# Altium footprint library LARS_409_SENSORS.PCBLIB: 10 footprints
Each footprint in its own frame and in the unit in brackets; x right, y up, seen from the top. Pads: shape width x height; smd on the part's side, far side on the other; paste and mask are expansions set on the pad; w line width, h text height; cw(c..) or ccw(c..) is an arc to the next point about the centre after c.
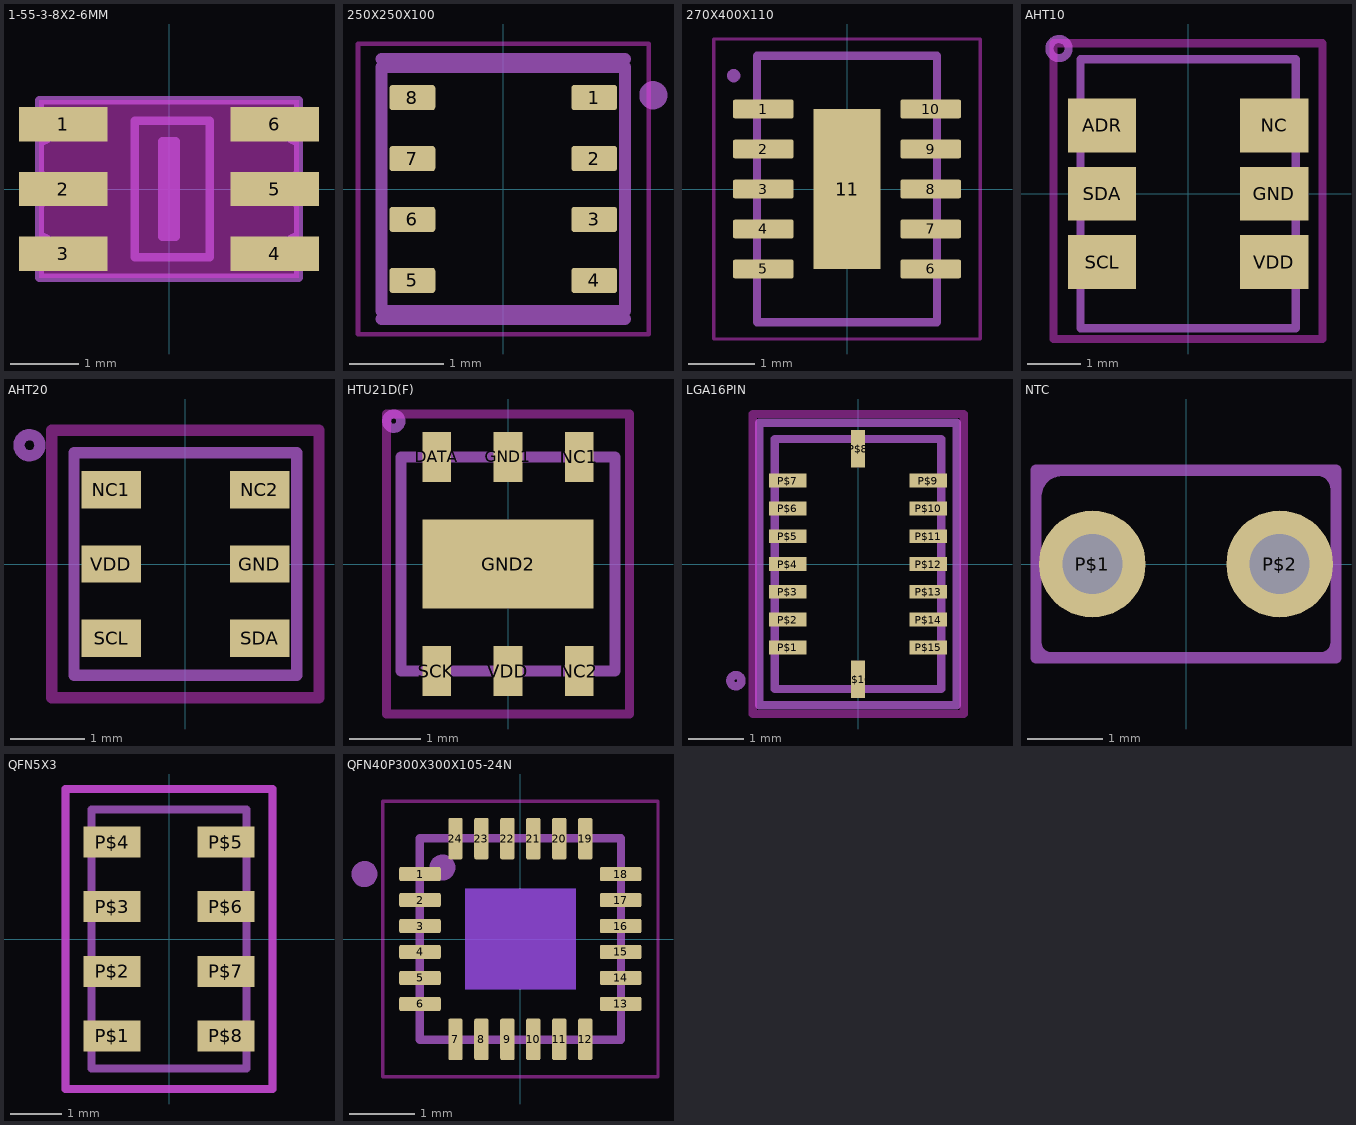
[diagram p0: the footprints below, top view; thin cyan lines are the x and y axes]

## 1-55-3-8X2-6MM [mm]
pads (6):
  rect 1.3x0.5 smd: 1(-1.55,0.95) 2(-1.55,0) 3(-1.55,-0.95) 4(1.55,-0.95) 5(1.55,0) 6(1.55,0.95)
Top keep-out:
  region: -1.902,-1.302 -1.902,1.3 1.9,1.3 1.9,-1.302
tDocu:
  lines w0.127: -1.9,-1.3 -1.9,-1.1 ; -1.9,-1.3 -1.9,-1.1 ; -1.9,-1.3 -1.9,-1.1 ; -1.9,-1.3 1.9,-1.3 1.9,-1.1 cw(c1.9,-0.9) 1.7,-0.9 cw(c1.9,-0.9) 1.9,-0.7 1.9,-0.2 cw(c1.9,0) 1.7,0 cw(c1.9,0) 1.9,0.2 1.9,0.7 cw(c1.9,0.9) 1.7,0.9 cw(c1.9,0.9) 1.9,1.1 1.9,1.3 -1.9,1.3 ; -1.9,-1.1 ccw(c-1.9,-0.9) -1.7,-0.9 ccw(c-1.9,-0.9) -1.9,-0.7 ; -1.9,-0.7 -1.9,-0.2 ; -1.9,-0.7 -1.9,-0.2 ; -1.9,-0.7 -1.9,-0.2 ; -1.9,-0.2 ccw(c-1.9,0) -1.7,0 ccw(c-1.9,0) -1.9,0.2 ; -1.9,0.2 -1.9,0.7 ; -1.9,0.2 -1.9,0.7 ; -1.9,0.2 -1.9,0.7 ; -1.9,0.7 ccw(c-1.9,0.9) -1.7,0.9 ccw(c-1.9,0.9) -1.9,1.1 ; -1.9,1.1 -1.9,1.3 ; -1.9,1.1 -1.9,1.3 ; -1.9,1.1 -1.9,1.3
tValues:
  region: -0.1,-0.701 -0.1,0.7 0.1,0.7 0.1,-0.701
  lines w0.127: -0.5,-1 -0.5,1 0.6,1 0.6,-1 -0.5,-1 ; -0.1,-0.7 -0.1,0.7 0.1,0.7 0.1,-0.7 -0.1,-0.7

## 250X250X100 [mm]
pads (8):
  rrect25% 0.49x0.27 smd: 1(0.97,0.975) 2(0.97,0.325) 3(0.97,-0.325) 4(0.97,-0.975) 5(-0.97,-0.975) 6(-0.97,-0.325) 7(-0.97,0.325) 8(-0.97,0.975)
Top keep-out:
  lines w0.05: -1.55,-1.55 1.55,-1.55 1.55,1.55 -1.55,1.55 -1.55,-1.55
tDocu:
  lines w0.127: -1.3,-1.3 -1.3,1.3 1.3,1.3 1.3,-1.3 -1.3,-1.3
tPlace:
  circle w0.2: c1.6,1 r0.05
  lines w0.127: -1.3,-1.385 1.3,-1.385 ; -1.3,1.385 1.3,1.385

## 270X400X110 [mm]
pads (11):
  rrect20% 0.91x0.28 smd: 1(-1.255,1.2) 2(-1.255,0.6) 3(-1.255,0) 4(-1.255,-0.6) 5(-1.255,-1.2) 6(1.255,-1.2) 7(1.255,-0.6) 8(1.255,0) 9(1.255,0.6) 10(1.255,1.2)
  rect 1x2.4 smd paste+0: 11(0,0)
Top keep-out:
  lines w0.05: -2,-2.25 2,-2.25 2,2.25 -2,2.25 -2,-2.25
Top Paste:
  region: -0.38,-0.761 -0.38,0.76 0.38,0.76 0.38,-0.761
tDocu:
  lines w0.127: -1.35,-2 1.35,-2 1.35,2 -1.35,2 -1.35,-2
tPlace:
  circle w0.1: c-1.7,1.7 r0.05
  lines w0.127: -1.35,-1.7 -1.35,-2 1.35,-2 1.35,-1.7 ; -1.35,1.7 -1.35,2 1.35,2 1.35,1.7

## AHT10 [mm]
pads (6):
  rect 1.27x1 smd: ADR(-1.6,1.27) GND(1.6,0) NC(1.6,1.27) SCL(-1.6,-1.27) SDA(-1.6,0) VDD(1.6,-1.27)
Top keep-out:
  lines w0.152: -2.5,-2.7 2.5,-2.7 2.5,2.8 -2.5,2.8 -2.5,-2.7
tDocu:
  lines w0.152: -2,-2.5 -2,2.5 ; 2,-2.5 2,2.5
tPlace:
  circle w0.152: c-2.4,2.7 r0.178
  lines w0.152: -2,-2.5 2,-2.5 ; -2,2.5 2,2.5

## AHT20 [mm]
pads (6):
  rect 0.8x0.5 smd: GND(1,0) NC1(-1,1) NC2(1,1) SCL(-1,-1) SDA(1,-1) VDD(-1,0)
Top keep-out:
  lines w0.152: -1.8,-1.8 1.8,-1.8 1.8,1.8 -1.8,1.8 -1.8,-1.8
tPlace:
  circle w0.152: c-2.1,1.6 r0.141
  lines w0.152: -1.5,-1.5 1.5,-1.5 1.5,1.5 -1.5,1.5 -1.5,-1.5

## HTU21D(F) [mm]
pads (7):
  rect 0.4x0.7 smd: DATA(-1,1.5) GND1(0,1.5) NC1(1,1.5) NC2(1,-1.5) SCK(-1,-1.5) VDD(0,-1.5)
  rect 2.4x1.25 smd: GND2(0,0)
Top keep-out:
  lines w0.127: -1.7,-2.1 1.7,-2.1 1.7,2.1 -1.7,2.1 -1.7,-2.1
tDocu:
  lines w0.152: -1.5,-1.5 1.5,-1.5 ; -1.5,1.5 1.5,1.5
tPlace:
  circle w0.127: c-1.6,2 r0.1
  lines w0.152: -1.5,-1.5 -1.5,1.5 ; 1.5,-1.5 1.5,1.5

## LGA16PIN [mm]
pads (16):
  rect 0.675x0.25 smd: P$1(-1.262,-1.5) P$2(-1.262,-1) P$3(-1.262,-0.5) P$4(-1.262,0) P$5(-1.262,0.5) P$6(-1.262,1) P$7(-1.262,1.5) P$9(1.262,1.5) P$10(1.262,1) P$11(1.262,0.5) P$12(1.262,0) P$13(1.262,-0.5) P$14(1.262,-1) P$15(1.262,-1.5)
  rect 0.25x0.675 smd: P$8(0,2.072) P$16(0,-2.072)
Top keep-out:
  lines w0.152: -1.9,-2.7 1.9,-2.7 1.9,2.7 -1.9,2.7 -1.9,-2.7
tDocu:
  circle w0.152: c-2.2,-2.1 r0.1
  lines w0.152: -1.5,-2.25 -1.5,2.25 1.5,2.25 1.5,-2.25 -1.5,-2.25
tPlace:
  lines w0.152: -1.778,-2.54 1.778,-2.54 1.778,2.54 -1.778,2.54 -1.778,-2.54
3D body "User Library-16-LGA.step": height 0.82, standoff -0.14, extent -1.5,-2.25 1.5,2.25

## NTC [mil]
pads (2):
  round 56 hole 31.5: P$1(-49.21,0) P$2(49.21,0)
tPlace:
  lines w6: -78.74,-41.34 ccw(c-70.87,-41.34) -70.87,-49.21 ; -78.74,-41.34 -78.74,-49.21 -70.87,-49.21 ; -78.74,-41.34 -78.74,35.43 ; -78.74,35.43 cw(c-64.96,35.43) -64.96,49.21 ; -78.74,35.43 -78.74,49.21 -64.96,49.21 ; -70.87,-49.21 70.87,-49.21 ; -64.96,49.21 68.9,49.21 ; 68.9,49.21 cw(c68.9,39.37) 78.74,39.37 ; 68.9,49.21 78.74,49.21 78.74,39.37 ; 70.87,-49.21 ccw(c70.87,-41.34) 78.74,-41.34 ; 70.87,-49.21 78.74,-49.21 78.74,-41.34 ; 78.74,-41.34 78.74,-39.37 78.74,39.37

## QFN5X3 [mm]
pads (8):
  rect 1.1x0.6 smd: P$1(-1.1,-1.875) P$2(-1.1,-0.625) P$3(-1.1,0.625) P$4(-1.1,1.875) P$5(1.1,1.875) P$6(1.1,0.625) P$7(1.1,-0.625) P$8(1.1,-1.875)
Top keep-out:
  lines w0.152: -2,-2.9 2,-2.9 2,2.9 -2,2.9 -2,-2.9
tDocu:
  lines w0.152: -1.5,-2.5 1.5,-2.5 1.5,2.5 -1.5,2.5 -1.5,-2.5
tPlace:
  lines w0.152: -2,-2.9 2,-2.9 2,2.9 -2,2.9 -2,-2.9
3D body "User Library-MS5611-01BA03.step": height 1, standoff -0.05, extent -1.5,-2.51 1.5,2.49

## QFN40P300X300X105-24N [mm]
pads (24):
  rrect25% 0.64x0.22 smd: 1(-1.545,1) 2(-1.545,0.6) 3(-1.545,0.2) 4(-1.545,-0.2) 5(-1.545,-0.6) 6(-1.545,-1) 13(1.545,-1) 14(1.545,-0.6) 15(1.545,-0.2) 16(1.545,0.2) 17(1.545,0.6) 18(1.545,1)
  rrect25% 0.22x0.64 smd: 7(-1,-1.545) 8(-0.6,-1.545) 9(-0.2,-1.545) 10(0.2,-1.545) 11(0.6,-1.545) 12(1,-1.545) 19(1,1.545) 20(0.6,1.545) 21(0.2,1.545) 22(-0.2,1.545) 23(-0.6,1.545) 24(-1,1.545)
Top keep-out:
  region: -0.85,-0.77 -0.85,0.77 0.85,0.77 0.85,-0.77
  region: -0.85,-0.77 -0.85,0.77 0.85,0.77 0.85,-0.77
  lines w0.05: -2.12,-2.12 2.12,-2.12 2.12,2.12 -2.12,2.12 -2.12,-2.12
Bottom keep-out:
  region: 0.85,0.77 0.85,-0.77 -0.85,-0.77 -0.85,0.77
tDocu:
  circle w0.2: c-1.2,1.1 r0.1
  lines w0.127: -1.55,-1.55 1.55,-1.55 1.55,1.55 -1.55,1.55 -1.55,-1.55
tPlace:
  circle w0.2: c-2.4,1 r0.1
  lines w0.127: -1.55,-1.3 -1.55,-1.55 -1.3,-1.55 ; -1.55,1.3 -1.55,1.55 -1.3,1.55 ; 1.3,-1.55 1.55,-1.55 1.55,-1.3 ; 1.3,1.55 1.55,1.55 1.55,1.3
3D body "User Library-MPU9250.step": height 1, standoff -0.05, extent -1.51,-1.51 1.51,1.51